# Altium schematic symbol library BMS.SchLib: 19 symbols
Pins are listed as number, name and electrical type; pins without a type are passive.

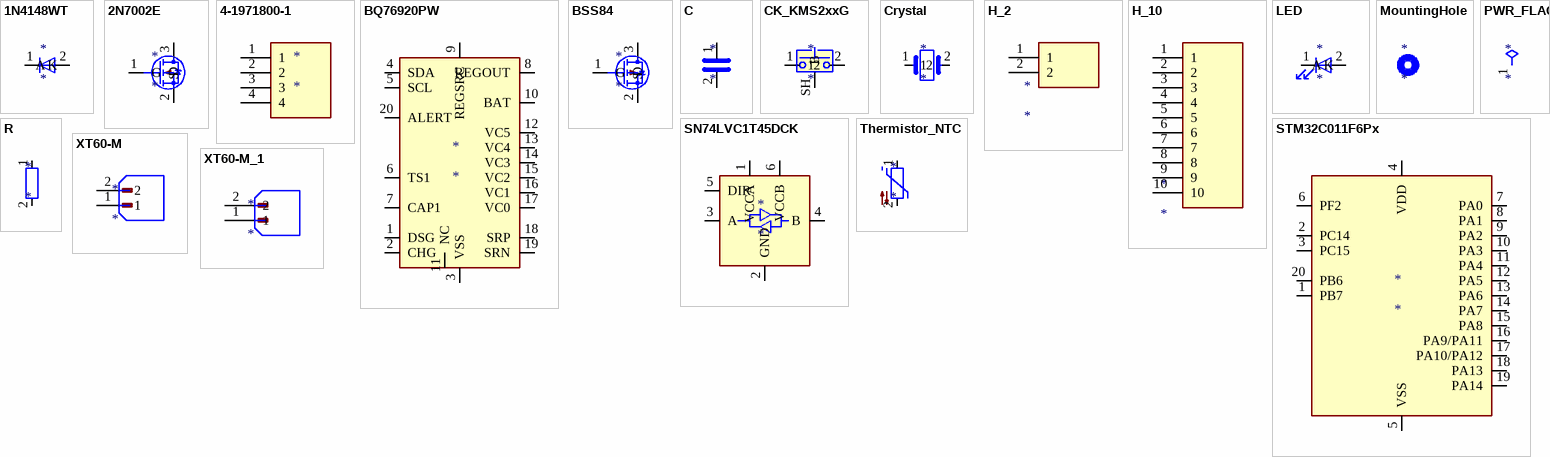
[diagram p0: symbols 1N4148WT to XT60-M_1]

## 1N4148WT
designator *
pins: 1 K, 2 A

## 2N7002E
designator *
pins: 1 G, 2 S, 3 D

## 4-1971800-1
designator *
pins: 1, 2, 3, 4

## BQ76920PW
designator *
pins: 1 DSG, 2 CHG, 3 VSS, 4 SDA, 5 SCL, 6 TS1, 7 CAP1, 8 REGOUT, 9 REGSRC, 10 BAT, 11 NC, 12 VC5, 13 VC4, 14 VC3, 15 VC2, 16 VC1, 17 VC0, 18 SRP, 19 SRN, 20 ALERT

## BSS84
designator *
pins: 1 G, 2 S, 3 D

## C
designator *
pins: 1, 2

## CK_KMS2xxG
designator *
pins: 1, 2, SH B

## Crystal
designator *
pins: 1, 2

## H_2
designator *
pins: 1, 2

## H_10
designator *
pins: 1, 2, 3, 4, 5, 6, 7, 8, 9, 10

## LED
designator *
pins: 1 K, 2 A

## MountingHole
designator *

## PWR_FLAG
designator *  (graphical)
pins: 1

## R
designator *
pins: 1, 2

## SN74LVC1T45DCK
designator *
pins: 1 VCCA, 2 GND, 3 A, 4 B, 5 DIR, 6 VCCB

## STM32C011F6Px
designator *
pins: 1 PB7, 2 PC14, 3 PC15, 4 VDD, 5 VSS, 6 PF2, 7 PA0, 8 PA1, 9 PA2, 10 PA3, 11 PA4, 12 PA5, 13 PA6, 14 PA7, 15 PA8, 16 PA9/PA11, 17 PA10/PA12, 18 PA13, 19 PA14, 20 PB6

## Thermistor_NTC
designator *
pins: 1, 2

## XT60-M
designator *
pins: 1, 2

## XT60-M_1
designator *
pins: 1, 2